# Altium schematic symbol library C1F250.SchLib: 2 symbols
Pins are listed as number, name and electrical type; pins without a type are passive.

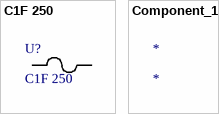
[diagram p0: symbols C1F 250 to Component_1]

## C1F 250
designator U?
No Description Available; Mfr_Name: Belfuse; Copyright: Copyright (C) 2022 Ultra Librarian. All rights reserved.; Manufacturer_Part_Number: C1F 250; Digi-Key_Part_Number_1: 507-1874-1-ND; Digi-Key_Part_Number_2: 507-1874-2-ND; Digi-Key_Part_Number_3: 507-1874-6-ND; RefDes: RefDes; Type: DEV
footprint C1_BEL
pins: 1, 2

## Component_1
designator *